# EAGLE library part HDMI (library partes v2)
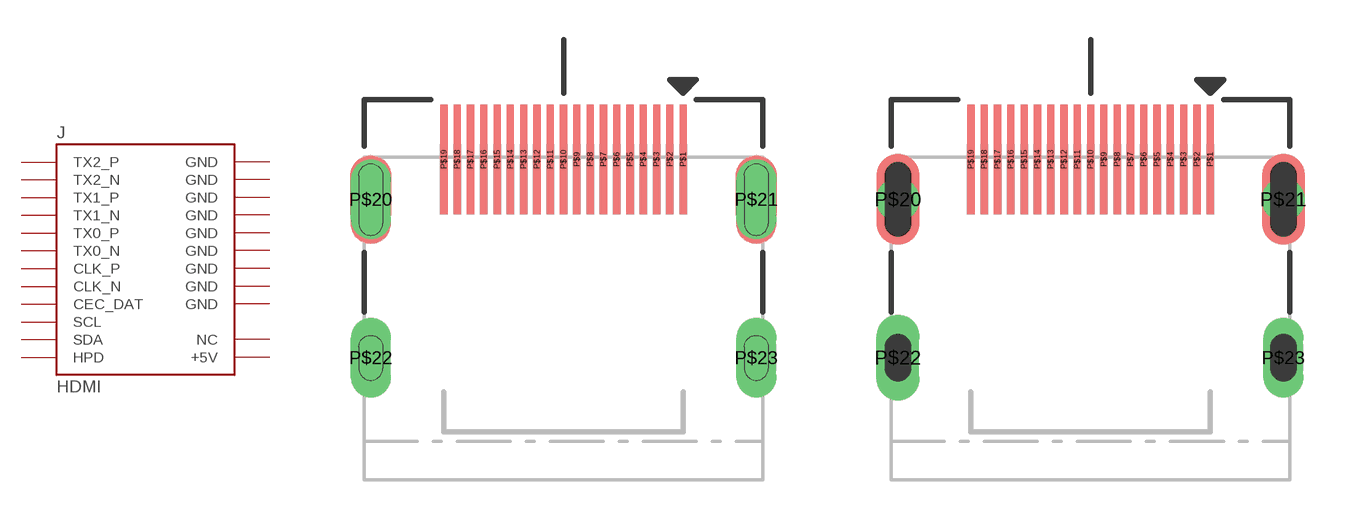
[diagram p1: symbol with the pads of 0471511071; footprints 0471511071, 0471511071_OP]

Designator prefix J

## HDMI  [0471511071]
P$1  TX2_P
P$2  GND
P$3  TX2_N
P$4  TX1_P
P$5  GND
P$6  TX1_N
P$7  TX0_P
P$8  GND
P$9  TX0_N
P$10  CLK_P
P$11  GND
P$12  CLK_N
P$13  CEC_DAT
P$14  NC
P$15  SCL
P$16  SDA
P$17  GND
P$18  +5V
P$19  HPD
P$20  GND
P$21  GND
P$22  GND
P$23  GND

## HDMI_OP  [0471511071_OP]
Pads as for 0471511071

## Footprint 0471511071 (pad centres in mm)
smd 0.3 x 4.1: P$1 4.5,3.75; P$2 4,3.75; P$3 3.5,3.75; P$4 3,3.75; P$5 2.5,3.75; P$6 2,3.75; P$7 1.5,3.75; P$8 1,3.75; P$9 0.5,3.75; P$10 0,3.75; P$11 -0.5,3.75; P$12 -1,3.75; P$13 -1.5,3.75; P$14 -2,3.75; P$15 -2.5,3.75; P$16 -3,3.75; P$17 -3.5,3.75; P$18 -4,3.75; P$19 -4.5,3.75
drill 0.9 pad 1.5 long: P$20 -7.25,2.24; P$21 7.25,2.24; P$22 -7.25,-3.72; P$23 7.25,-3.72

## Footprint 0471511071_OP (pad centres in mm)
smd 0.3 x 4.1: P$1 4.5,3.75; P$2 4,3.75; P$3 3.5,3.75; P$4 3,3.75; P$5 2.5,3.75; P$6 2,3.75; P$7 1.5,3.75; P$8 1,3.75; P$9 0.5,3.75; P$10 0,3.75; P$11 -0.5,3.75; P$12 -1,3.75; P$13 -1.5,3.75; P$14 -2,3.75; P$15 -2.5,3.75; P$16 -3,3.75; P$17 -3.5,3.75; P$18 -4,3.75; P$19 -4.5,3.75
drill 1.016 pad 1.616: P$20 -7.25,2.24; P$21 7.25,2.24
drill 1.016 pad 1.616 long: P$22 -7.25,-3.72
drill 0.9 pad 1.5 long: P$23 7.25,-3.72